# EAGLE library part ACS712 (library allegro)
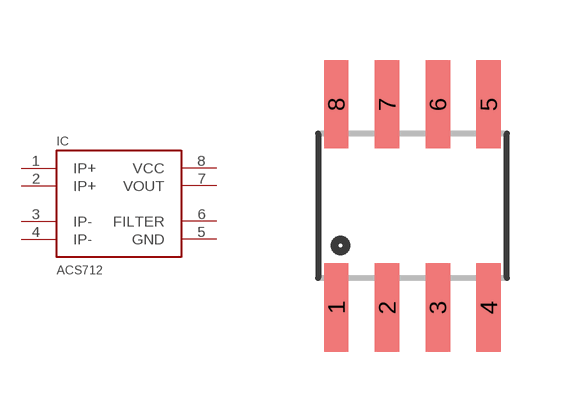
[diagram p0: symbol with the pads of SO08; footprint SO08]

Designator prefix IC

## ACS712  [SO08]
1  IP+  pas
2  IP+  pas
3  IP-  pas
4  IP-
5  GND  sup
6  FILTER  pas
7  VOUT  pas
8  VCC  sup

## Footprint SO08 (pad centres in mm)
Small Outline Package Fits JEDEC packages (narrow SOIC-8)
smd 0.61 x 2.21: 1 -1.905,-2.54; 2 -0.635,-2.54; 3 0.635,-2.54; 4 1.905,-2.54; 5 1.905,2.54; 6 0.635,2.54; 7 -0.635,2.54; 8 -1.905,2.54